# EAGLE library part 93C46BT-I/SN (library 93C46BT-I_SN)
1K Microwire Compatible Serial EEPROM
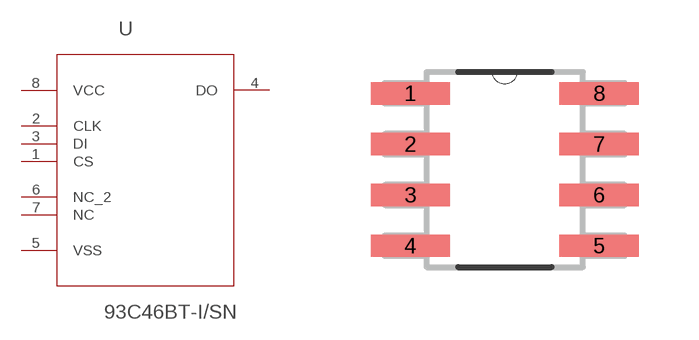
[diagram p0: symbol with the pads of SOIC127P600X175-8N; footprint SOIC127P600X175-8N]

Designator prefix -

## 93C46BT-I/SN (Availability: Unavailable; Description: 93C46 Series 1 Kbit _64 x 16_ 5.5 V Microwire Compatible Serial EEPROM - SOIC-8; MF: Microchip; MP: 93C46BT-I/SN; Package: SOIC-8 Microchip; Price: None)  [SOIC127P600X175-8N]
1  CS  in
2  CLK  in
3  DI  in
4  DO  out
5  VSS  pwr
6  NC_2  nc
7  NC  nc
8  VCC  pwr

## Footprint SOIC127P600X175-8N (pad centres in mm)
smd 1.981 x 0.559: 1 -2.362,1.905; 2 -2.362,0.635; 3 -2.362,-0.635; 4 -2.362,-1.905; 5 2.362,-1.905; 6 2.362,-0.635; 7 2.362,0.635; 8 2.362,1.905